# Altium schematic symbol library Connectors.SchLib: 6 symbols
Pins are listed as number, name and electrical type; pins without a type are passive.

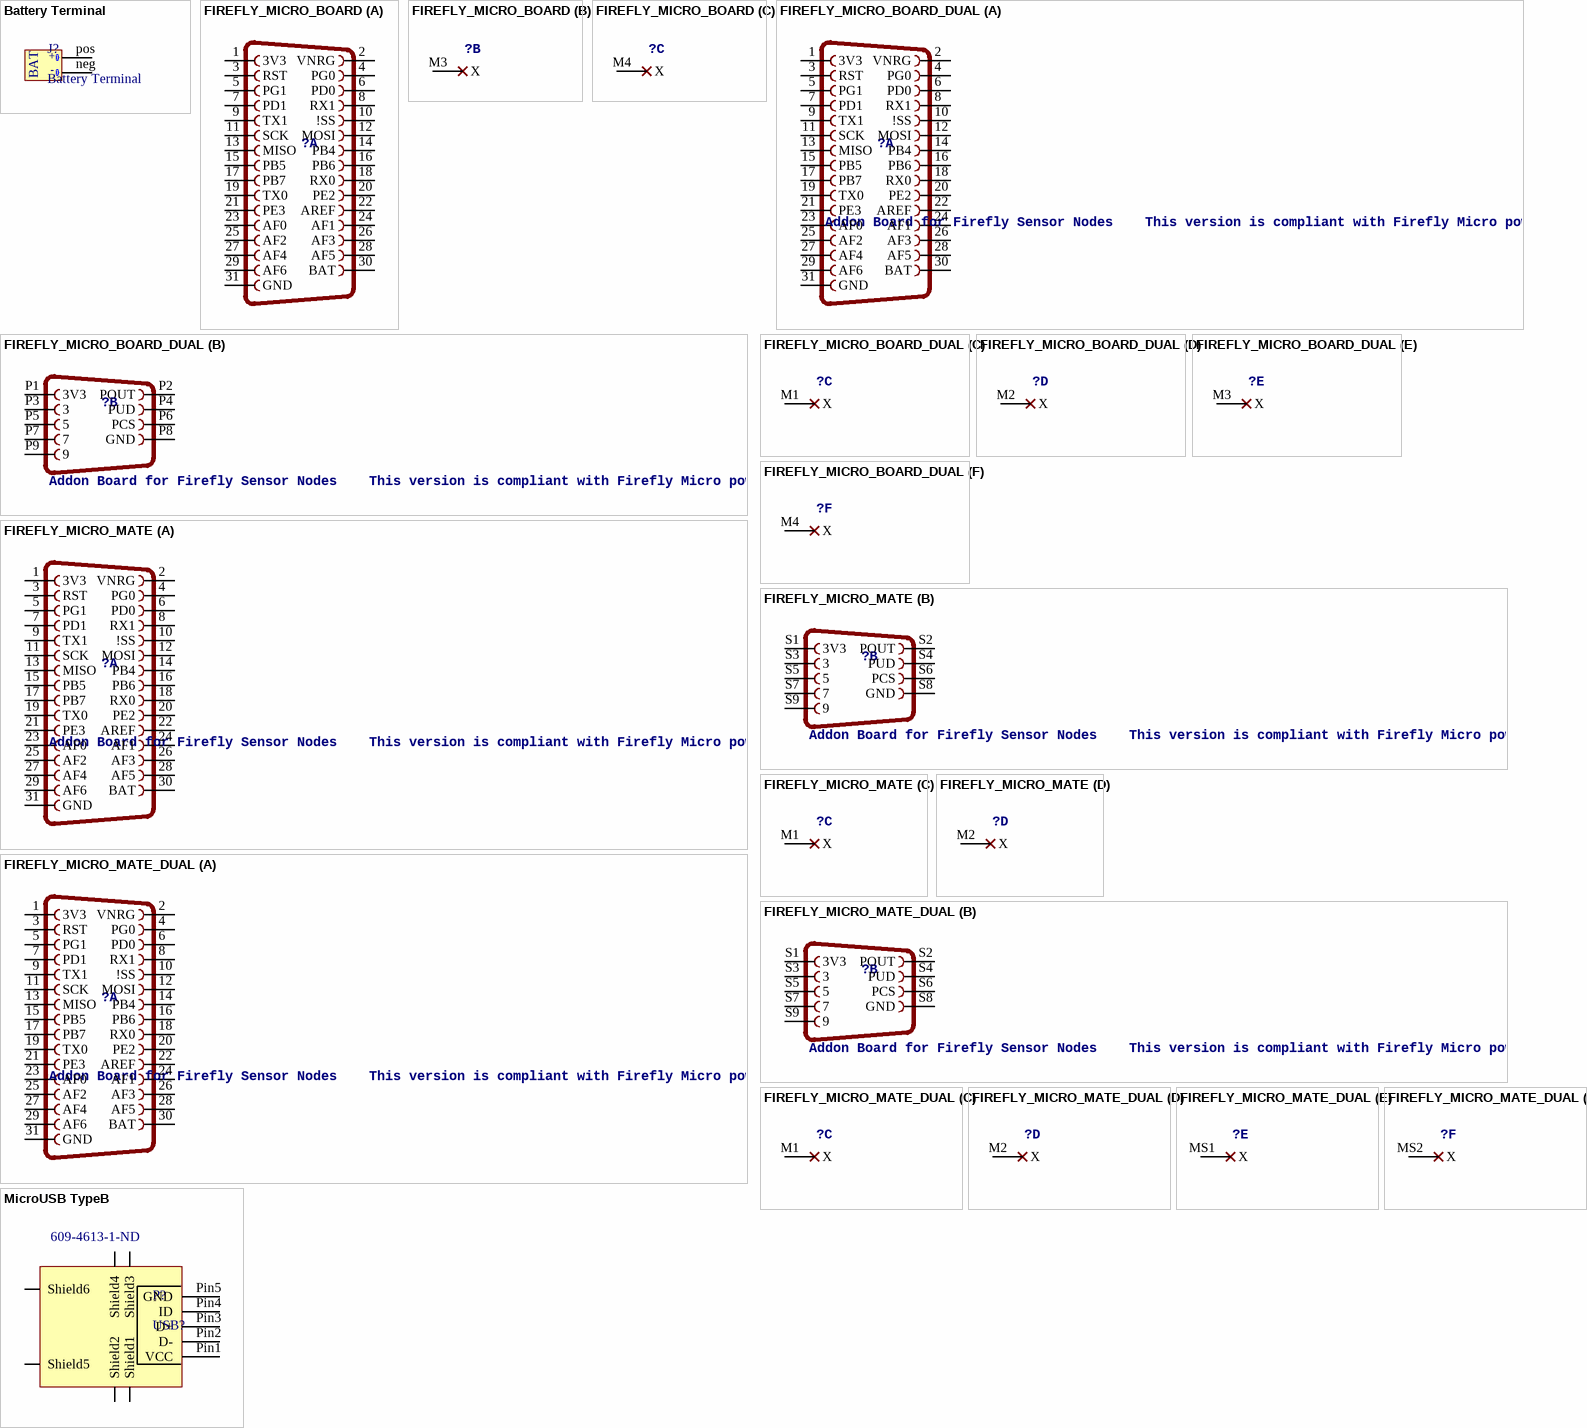
[diagram p0: symbols Battery Terminal to MicroUSB TypeB]

## Battery Terminal
designator J?
footprint Battery Terminal (Battery terminal for the firefly case)
pins: neg, pos
text: +; BAT; -

## FIREFLY_MICRO_BOARD
designator ?, comment Addon Board for Firefly Sensor Nodes    This version is compliant with Firefly Micro powered by Atmel Atmega128RFA1.    Connectors on female gender match those on Firefly Micro Board.    Connectors on male gender mate with Firefly Micro Board. Use these for addons.  (value not drawn)
GENDER: Female
footprint FIREFLY_MICRO_BOARD
part A pins: 1 3V3 (power), 2 VNRG (power), 3 RST, 4 PG0, 5 PG1, 6 PD0, 7 PD1, 8 RX1, 9 TX1, 10 !SS, 11 SCK, 12 MOSI, 13 MISO, 14 PB4, 15 PB5, 16 PB6, 17 PB7, 18 RX0, 19 TX0, 20 PE2, 21 PE3, 22 AREF, 23 AF0, 24 AF1, 25 AF2, 26 AF3, 27 AF4, 28 AF5, 29 AF6, 30 BAT, 31 GND (power)
part B pins: M3 X
part C pins: M4 X

## FIREFLY_MICRO_BOARD_DUAL
designator ?, comment Addon Board for Firefly Sensor Nodes    This version is compliant with Firefly Micro powered by Atmel Atmega128RFA1.    Connectors on female gender match those on Firefly Micro Board.    Connectors on male gender mate with Firefly Micro Board. Use these for addons.
GENDER: Female
footprint FIREFLY_MICRO_BOARD_DUAL
part A pins: 1 3V3 (power), 2 VNRG (power), 3 RST, 4 PG0, 5 PG1, 6 PD0, 7 PD1, 8 RX1, 9 TX1, 10 !SS, 11 SCK, 12 MOSI, 13 MISO, 14 PB4, 15 PB5, 16 PB6, 17 PB7, 18 RX0, 19 TX0, 20 PE2, 21 PE3, 22 AREF, 23 AF0, 24 AF1, 25 AF2, 26 AF3, 27 AF4, 28 AF5, 29 AF6, 30 BAT, 31 GND (power)
part B pins: P1 3V3 (power), P2 POUT, P3 3, P4 PUD, P5 5, P6 PCS, P7 7, P8 GND (power), P9 9
part C pins: M1 X
part D pins: M2 X
part E pins: M3 X
part F pins: M4 X

## FIREFLY_MICRO_MATE
designator ?, comment Addon Board for Firefly Sensor Nodes    This version is compliant with Firefly Micro powered by Atmel Atmega128RFA1.    Connectors on female gender match those on Firefly Micro Board.    Connectors on male gender mate with Firefly Micro Board. Use these for addons.
GENDER: Male
footprint FIREFLY_MICRO_MATE
part A pins: 1 3V3 (power), 2 VNRG (power), 3 RST, 4 PG0, 5 PG1, 6 PD0, 7 PD1, 8 RX1, 9 TX1, 10 !SS, 11 SCK, 12 MOSI, 13 MISO, 14 PB4, 15 PB5, 16 PB6, 17 PB7, 18 RX0, 19 TX0, 20 PE2, 21 PE3, 22 AREF, 23 AF0, 24 AF1, 25 AF2, 26 AF3, 27 AF4, 28 AF5, 29 AF6, 30 BAT, 31 GND (power)
part B pins: S1 3V3 (power), S2 POUT, S3 3, S4 PUD, S5 5, S6 PCS, S7 7, S8 GND (power), S9 9
part C pins: M1 X
part D pins: M2 X

## FIREFLY_MICRO_MATE_DUAL
designator ?, comment Addon Board for Firefly Sensor Nodes    This version is compliant with Firefly Micro powered by Atmel Atmega128RFA1.    Connectors on female gender match those on Firefly Micro Board.    Connectors on male gender mate with Firefly Micro Board. Use these for addons.
GENDER: Male
footprint FIREFLY_MICRO_MATE_DUAL
part A pins: 1 3V3 (power), 2 VNRG (power), 3 RST, 4 PG0, 5 PG1, 6 PD0, 7 PD1, 8 RX1, 9 TX1, 10 !SS, 11 SCK, 12 MOSI, 13 MISO, 14 PB4, 15 PB5, 16 PB6, 17 PB7, 18 RX0, 19 TX0, 20 PE2, 21 PE3, 22 AREF, 23 AF0, 24 AF1, 25 AF2, 26 AF3, 27 AF4, 28 AF5, 29 AF6, 30 BAT, 31 GND (power)
part B pins: S1 3V3 (power), S2 POUT, S3 3, S4 PUD, S5 5, S6 PCS, S7 7, S8 GND (power), S9 9
part C pins: M1 X
part D pins: M2 X
part E pins: MS1 X
part F pins: MS2 X

## MicroUSB TypeB
designator P?, comment USB?  Supplier Part Number 1: 609-4613-1-ND
Micro USB Type B Port; Supplier: http://www.digikey.com/product-detail/en/amphenol-fci/10118192-0001LF/609-4613-2-ND/2785387; Datasheet: http://portal.fciconnect.com/Comergent//fci/drawing/10118192.pdf; Supplier 1: Digi-Key
footprint MicroUSB_TypeB
pins: Pin1 VCC "+5VDC", Pin2 D- "Data -", Pin3 D+ "Data +", Pin4 ID "Mode Detect (OTG)", Pin5 GND "Ground", Shield1, Shield2, Shield3, Shield4, Shield5, Shield6